# Altium integrated library MCP9700-E_TO.IntLib: 1 symbol
Pins are listed as number, name and electrical type; pins without a type are passive.

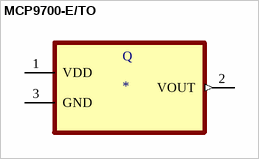
[diagram p0: symbol MCP9700-E/TO]

## MCP9700-E/TO
designator Q
Temperature Sensor Analog, Local -40Â°C ~ 125Â°C 10mV/Â°C TO-92-3; MF: Microchip; MP: MCP9700-E/TO; Package: TO-92 Microchip; Value: *; Price: None; Availability: Unavailable; SnapEDA_Link: https://www.snapeda.com/parts/MCP9700-E/TO/Microchip/view-part/49024/?ref=snap
footprint TO127P254X533-3
pins: 1 VDD (power), 2 VOUT (out), 3 GND